# Altium schematic symbol library Reverse Engineering.SchLib: 7 symbols
Pins are listed as number, name and electrical type; pins without a type are passive.

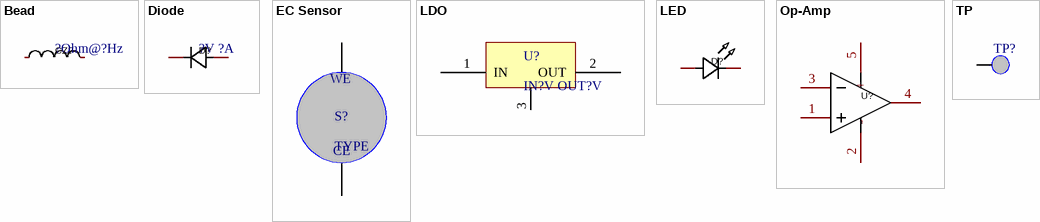
[diagram p0: symbols Bead to TP]

## Bead
designator CZ?, comment ?Ohm@?Hz
Common Smd Bead; Manufacturer: muRata(村田); Name: BLM18AG601SN1D; Add into BOM: yes; Impedance @ Frequency: 600Ω@100MHz; Tolerance: ±25%; DC Resistance: 380mΩ; Current Rating: 500mA; Circuits: 1; Symbol: BLM18AG601SN1D; Device: BLM18AG601SN1D; LCSC Part Name: 单路 0603磁珠 阻抗600Ω@100MHz; Supplier Part: C19330; Manufacturer Part: BLM18AG601SN1D; Supplier Footprint: 0603; JLCPCB Part Class: Extended Part; Datasheet: https://atta.szlcsc.com/upload/public/pdf/source/20180326/C19330_93F4AC33FF94C8E22511353688ADC0FA.pdf; Supplier: LCSC; Convert to PCB: yes
footprint L0603
3D model L0603_L1.6-W0.8-H0.5_BEAD
pins: 1, 2

## Diode
designator D?, comment ?V ?A
Common Diode; Manufacturer: TWGMC(台湾迪嘉); Name: 1N4007; Symbol: 1N4007_C727081; Add into BOM: yes; Forward Voltage (Vf@If): 1.1V 1A; Reverse Leakage Current: 5uA 1kV; Reverse Voltage (Vr): 1kV; Diode Configuration: 独立式; Average Rectified Current (Io): 1A; Device: 1N4007_C727081; LCSC Part Name: 1N4007; Supplier Part: C727081; Manufacturer Part: 1N4007; Supplier Footprint: SMA(DO-214AC); JLCPCB Part Class: Extended Part; Datasheet: https://atta.szlcsc.com/upload/public/pdf/source/20200828/C727079_3A05254382567072883400655AE0ED46.pdf; Supplier: LCSC; Convert to PCB: yes
pins: 1 K, 2 A

## EC Sensor
designator S?, comment TYPE
EC Sensor 2 Pin
pins: 6, 7
text: WE; CE

## LDO
designator U?, comment IN?V OUT?V
Low Dropout Regulator
pins: 1 IN, 2 OUT, 3 GND

## LED
designator D?, comment MHK1375CRBTD  (value not drawn)
Light Emitting Diode; Manufacturer: MEIHUA(美华); Add into BOM: yes; Emitted Color: 红灯; Lens Color: 雾状红; Dominant Wavelength: 628nm; Forward Current: 20mA; Power Dissipation: 75mW; Viewing Angle: 60°; Lamp Holder Type: 组装式圆形灯头; Name: MHK1375CRBTD; Symbol: MHK1375CRBTD; Device: MHK1375CRBTD; LCSC Part Name: 红灯 LED货套单LED; Supplier Part: C2764901; Manufacturer Part: MHK1375CRBTD; Supplier Footprint: 插件,P=2.54mm; JLCPCB Part Class: Extended Part; Datasheet: https://atta.szlcsc.com/upload/public/pdf/source/20210406/C2764901_ED37C4554FC3F5D00E757EC836FABC51.pdf; Supplier: LCSC; Convert to PCB: yes; Diode Configuration: -; Peak Wavelength: -; Color Temperature: -; Mounting Sytle: -; Operating Temperature: -25℃~+85℃
footprint LED-TH_MHK1375CRBTD
3D model LED-TH_MHK1375CRBTD
pins: 1 A, 2 K

## Op-Amp
designator U?
Single Op-Amp In SOT-23-5; Manufacturer: Gainsil(聚洵); Name: LMV321-TR; Add into BOM: yes; Symbol: LMV321-TR; Device: LMV321-TR; LCSC Part Name: 低功耗,轨到轨输入输出,1通道运放; Supplier Part: C362273; Manufacturer Part: LMV321-TR; Supplier Footprint: SOT-23-5; JLCPCB Part Class: Extended Part; Datasheet: https://atta.szlcsc.com/upload/public/pdf/source/20220610/6BCF6B2E6D346723E41E276410E02207.pdf; Supplier: LCSC; Convert to PCB: yes; Number of Circuits: -
footprint SOT-23-5_L3.0-W1.7-P0.95-LS2.8-BR
3D model SOT-23-5_L2.9-W1.6-H1.1-LS2.8-P0.95
pins: 1 +IN, 2 -, 3 -IN, 4 OUT, 5 +

## TP
designator TP?  (value not drawn)
Test Point
pins: 8